# Altium footprint library 新主控制.PcbLib: 56 footprints (part 3 of 4)
Each footprint in its own frame and in the unit in brackets; x right, y up, seen from the top. Pads: shape width x height; smd on the part's side, far side on the other; paste and mask are expansions set on the pad; w line width, h text height; cw(c..) or ccw(c..) is an arc to the next point about the centre after c.
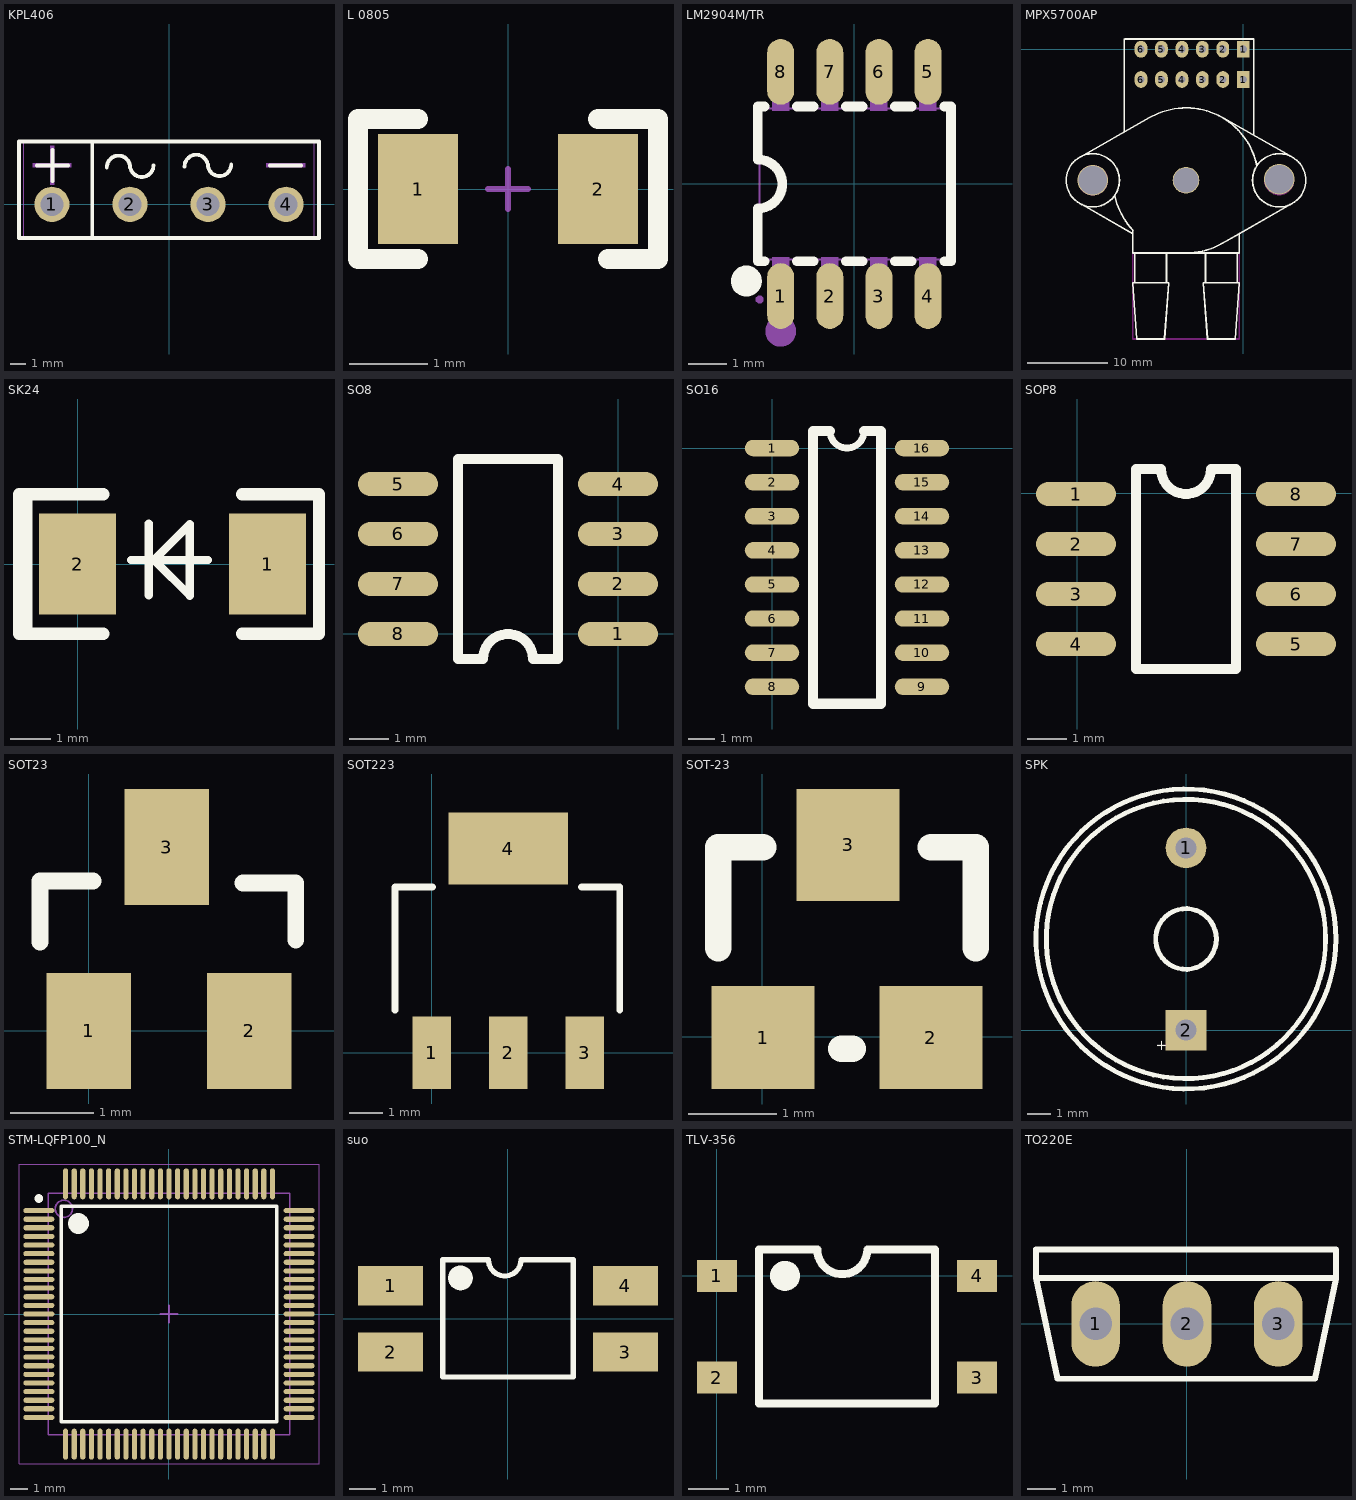
[diagram p2: the footprints below, top view; thin cyan lines are the x and y axes]

## KPL406 [mm]
height 0.7
pads (4):
  round 2.3 hole 1.5 paste+0 mask+0.051: 1(-7.65,0) 2(-2.55,0) 3(2.55,0) 4(7.65,0)
Top Overlay:
  lines w0.254: -8.636,2.54 -6.604,2.54 ; -7.62,1.524 -7.62,3.556 ; -5.016,-2.2 -5.016,4.1 ; -4.064,2.413 cw(c-3.302,2.413) -2.54,2.413 ; -2.54,2.54 ccw(c-1.778,2.54) -1.016,2.54 ; 1.016,2.477 cw(c1.778,2.477) 2.54,2.477 ; 2.54,2.603 ccw(c3.302,2.603) 4.064,2.603 ; 6.604,2.54 8.636,2.54 ; -9.8,-2.2 -9.8,4.1 9.8,4.1 9.8,-2.2 -9.8,-2.2
Mechanical 6:
  region: -7.764,1.291 -7.764,3.831 -7.51,3.831 -7.51,1.291
  region: -8.916,2.682 -6.376,2.682 -6.376,2.428 -8.916,2.428
  region: 6.35,2.667 8.89,2.667 8.89,2.413 6.35,2.413
Mechanical 15:
  region: -7.03,0 -7.03,0.123 -7.124,0.351 -7.299,0.526 -7.527,0.62 -7.773,0.62 -8.001,0.526 -8.176,0.351 -8.27,0.123 -8.27,0 -8.27,-0.123 -8.176,-0.351 -8.001,-0.526 -7.773,-0.62 -7.527,-0.62 -7.299,-0.526 -7.124,-0.351 -7.03,-0.123
  region: -1.93,0 -1.93,0.123 -2.024,0.351 -2.199,0.526 -2.427,0.62 -2.673,0.62 -2.901,0.526 -3.076,0.351 -3.17,0.123 -3.17,0 -3.17,-0.123 -3.076,-0.351 -2.901,-0.526 -2.673,-0.62 -2.427,-0.62 -2.199,-0.526 -2.024,-0.351 -1.93,-0.123
  region: 3.17,0 3.17,0.123 3.076,0.351 2.901,0.526 2.673,0.62 2.427,0.62 2.199,0.526 2.024,0.351 1.93,0.123 1.93,0 1.93,-0.123 2.024,-0.351 2.199,-0.526 2.427,-0.62 2.673,-0.62 2.901,-0.526 3.076,-0.351 3.17,-0.123
  region: 8.27,0 8.27,0.123 8.176,0.351 8.001,0.526 7.773,0.62 7.527,0.62 7.299,0.526 7.124,0.351 7.03,0.123 7.03,0 7.03,-0.123 7.124,-0.351 7.299,-0.526 7.527,-0.62 7.773,-0.62 8.001,-0.526 8.176,-0.351 8.27,-0.123
  region: -9.44,-2.1 -9.44,-2.075 -9.475,-2.04 -9.525,-2.04 -9.56,-2.075 -9.56,-2.1 -9.56,-2.125 -9.525,-2.16 -9.475,-2.16 -9.44,-2.125
  lines w0.051: -9.5,-2.1 -9.5,4.2 9.5,4.2 9.5,-2.1 -9.5,-2.1

## L 0805 [mil] "小功率贴片电感        淘宝ID:黄晶宝石"
height 27.56
pads (2):
  rect 40x55 smd: 1(-45,0) 2(45,0)
Top Overlay:
  lines w10: -45,-35 -75,-35 -75,35 -45,35 ; 45,35 75,35 75,-35 50,-35
Mechanical 15:
  lines w3: -10,0 10,0 ; 0,-10 0,10
3D body "0805.STEP": height 35.43, standoff -0.11, extent -39.37,-23.62 39.37,23.62

## LM2904M/TR [mm]
height 0.7
pads (8):
  oval 0.7x1.7 smd paste+0 mask+0.051: 1(-1.905,-2.9) 2(-0.635,-2.9) 3(0.635,-2.9) 4(1.905,-2.9) 5(1.905,2.9) 6(0.635,2.9) 7(-0.635,2.9) 8(-1.905,2.9)
Top Overlay:
  lines w0.254: -2.5,-0.635 -2.5,-2 -2.326,-2 ; -2.5,0.635 -2.5,2 -2.326,2 ; -2.5,-0.635 ccw(c-2.5,0) -2.499,0.635 ; -1.484,-2 -1.056,-2 ; -1.484,2 -1.056,2 ; -0.214,-2 0.214,-2 ; -0.214,2 0.214,2 ; 1.056,-2 1.484,-2 ; 1.056,2 1.484,2 ; 2.326,-2 2.5,-2 2.5,2 2.326,2
  lines w0.4: -2.794,-2.311 ccw(c-2.793,-2.511) -2.791,-2.311
Mechanical 6:
  circle w0.4: c-1.905,-3.81 r0.2
Mechanical 15:
  region: -2.125,-2.99 -2.125,-2.265 -1.685,-2.265 -1.685,-2.99
  region: -2.125,-2.315 -2.125,-1.9 -1.685,-1.9 -1.685,-2.315
  region: -0.855,-2.99 -0.855,-2.265 -0.415,-2.265 -0.415,-2.99
  region: -0.855,-2.315 -0.855,-1.9 -0.415,-1.9 -0.415,-2.315
  region: 0.415,-2.99 0.415,-2.265 0.855,-2.265 0.855,-2.99
  region: 0.415,-2.315 0.415,-1.9 0.855,-1.9 0.855,-2.315
  region: 1.685,-2.99 1.685,-2.265 2.125,-2.265 2.125,-2.99
  region: 1.685,-2.315 1.685,-1.9 2.125,-1.9 2.125,-2.315
  region: -2.125,2.265 -2.125,2.99 -1.685,2.99 -1.685,2.265
  region: -2.125,1.9 -2.125,2.315 -1.685,2.315 -1.685,1.9
  region: -0.855,2.265 -0.855,2.99 -0.415,2.99 -0.415,2.265
  region: -0.855,1.9 -0.855,2.315 -0.415,2.315 -0.415,1.9
  region: 0.415,2.265 0.415,2.99 0.855,2.99 0.855,2.265
  region: 0.415,1.9 0.415,2.315 0.855,2.315 0.855,1.9
  region: 1.685,2.265 1.685,2.99 2.125,2.99 2.125,2.265
  region: 1.685,1.9 1.685,2.315 2.125,2.315 2.125,1.9
  region: -2.35,-2.99 -2.35,-2.949 -2.409,-2.89 -2.492,-2.89 -2.55,-2.949 -2.55,-2.99 -2.55,-3.032 -2.492,-3.09 -2.409,-3.09 -2.35,-3.032
  lines w0.051: -2.45,-1.95 2.45,-1.95 2.45,1.95 -2.45,1.95 -2.45,-1.95

## MPX5700AP [mil]
height 27.56
pads (15):
  rect 62x82 hole 35: 1(0,-147.87) 1(0,0)
  oval 62x82 hole 35: 2(-100,-147.87) 2(-100,0) 3(-200,-147.87) 3(-200,0) 4(-300,-147.87) 4(-300,0) 5(-400,-147.87) 5(-400,0) 6(-500,-147.87) 6(-500,0)
  round 150 hole 140: ""(-735,-640) ""(175,-635)
  round 130 hole 120: ""(-280,-640)
Top Overlay:
  circle w8: c174.82,-639.95 r130
  circle w8: c-735.18,-639.95 r130
  circle w8: c-735,-640 r130
  circle w8: c175,-640 r130
  lines w8: -810.18,-534.95 -460.18,-334.95 -414.53,-312.85 cw(c-280.18,-639.95) 66.38,-569.63 ; -810,-535 -460,-335 -414.35,-312.89 cw(c-280,-640) 66.56,-569.68 ; -785.18,-759.95 -540.18,-899.95 ; -785,-760 -540,-900 ; -627.9,-715.55 ccw(c-280.18,-639.95) -539.16,-883.99 ; -627.72,-715.59 ccw(c-280,-640) -538.98,-884.04 ; -581,-404 -581,49 -580,50 -550,50 50,50 50,-50 50,-419 ; -540.18,-884.95 -540.18,-899.95 ; -540,-885 -540,-900 ; -530.18,-994.95 -530.18,-1139.95 ; -530,-995 -530,-1140 ; -375.18,-994.95 -375.18,-999.95 -375.18,-1139.95 ; -375,-995 -375,-1000 -375,-1140 ; -280.18,-995.09 ccw(c-280.18,-639.95) -85.55,-937.01 -20.18,-899.95 ; -280,-995.14 ccw(c-280,-640) -85.37,-937.06 -20,-900 235,-755 ; -280,-995 -540,-995 -540,-900 ; -185.18,-994.95 -185.18,-1139.95 ; -100.18,-334.95 244.82,-529.95 ; -100,-335 245,-530 ; -30.18,-994.95 -30.18,-1139.95 ; 234.82,-754.95 -20.18,-899.95 ; -540.18,-899.95 -540.18,-994.95 -280.18,-994.95 -20.18,-994.95 -20.18,-899.95 ; -530.18,-1139.95 -540.18,-1139.95 -520.18,-1414.95 -385.18,-1414.95 -365.18,-1139.95 -375.18,-1139.95 ; -530.18,-1139.95 -375.18,-1139.95 ; -530,-1140 -375,-1140 ; -530,-1140 -540,-1140 -520,-1415 -385,-1415 -365,-1140 -375,-1140 ; -185.18,-1139.95 -195.18,-1139.95 -175.18,-1414.95 -40.18,-1414.95 -20.18,-1139.95 -30.18,-1139.95 ; -185.18,-1139.95 -30.18,-1139.95
Top Paste:
  lines w5: -580,-380 -580,-155
Keep-Out Layer:
  circle w5: c-735.18,-639.95 r68.89
  circle w5: c175.06,-640.19 r68.9
  circle w5: c-281.64,-640.19 r59.05
  circle w10: c175,-640 r68.9
  circle w10: c-735,-640 r68.9
  lines w8: -540,-1415 -540,-995 -20,-995 -20,-1415 -540,-1415

## SK24 [mm]
height 0.7
pads (2):
  rect 1.9x2.5 smd: 1(4.699,0) 2(0,0)
Top Overlay:
  lines w0.2: 1.911,0.078 1.911,0.14 1.925,0.14
  lines w0.203: 1.321,0.102 3.226,0.102 ; 1.758,-0.774 1.758,1 ; 1.911,0.078 2.774,-0.785 2.774,0.989 1.925,0.14
  lines w0.305: 0.635,-1.727 -1.27,-1.727 ; 0.635,1.727 -1.27,1.727 ; 4.064,-1.727 5.969,-1.727 5.969,1.727 4.064,1.727 ; -1.27,-1.727 -1.27,1.727 ; -1.27,-1.727 -1.448,-1.727 -1.448,1.727 -1.27,1.727

## SO8 [mil]
height 27.56
pads (8):
  oval 80x24 smd: 1(0,0) 2(0,50) 3(0,100) 4(0,150) 5(-220,150) 6(-220,100) 7(-220,50) 8(-220,0)
Top Overlay:
  lines w10: -160,-25 -135,-25 cw(c-110,-25) -85,-25 -60,-25 -60,175 -160,175 -160,-25

## SO16 [mil]
height 27.56
pads (16):
  oval 80x24 smd: 1(0,0) 2(0,-50) 3(0,-100) 4(0,-150) 5(0,-200) 6(0,-250) 7(0,-300) 8(0,-350) 9(220,-350) 10(220,-300) 11(220,-250) 12(220,-200) 13(220,-150) 14(220,-100) 15(220,-50) 16(220,0)
Top Overlay:
  lines w10: 85,25 ccw(c110,25) 135,25
  lines w15: 85,25 60,25 60,-375 160,-375 160,25 135,25

## SOP8 [mil] "封装库来自淘宝卖?"
height 27.56
pads (8):
  oval 80x24 smd: 1(-1,-1) 2(-1,-51) 3(-1,-101) 4(-1,-151) 5(219,-151) 6(219,-101) 7(219,-51) 8(219,-1)
Top Overlay:
  lines w10: 59,-176 59,24 84,24 ccw(c109,24) 134,24 159,24 159,-176 59,-176
3D body "SOP8.STEP": height 62.99, standoff 0, extent -3.93,-173.82 233.94,23.82

## SOT23 [mil]
height 27.56
pads (3):
  rect 40x55 smd: 1(0,0) 2(76,0) 3(37,87)
Top Overlay:
  lines w8: -23,42 -23,71 2,71 ; 73,70 97,70 ; 98,43 98,70

## SOT223 [mil]
pads (4):
  rect 45x85 smd: 1(0,0) 2(90,0) 3(180,0)
  rect 140x85 smd: 4(90,240)
Top Overlay:
  lines w8: -43,50 -43,195 1,195 ; 176,195 221,195 221,50

## SOT-23 [mil]
height 27.56
pads (3):
  rect 46x46 smd: 1(0.24,-0.44) 2(75.24,-0.44)
  rect 46x50 smd: 3(38.24,85.56)
Top Overlay:
  lines w12: -19.76,39.56 -19.76,84.56 0.24,84.56 ; 35.24,-5.44 40.24,-5.44 ; 75.24,84.56 95.24,84.56 95.24,39.56

## SPK [mm]
height 0.7
pads (2):
  round 1.7 hole 0.889: 1(0,7.62)
  rect 1.7x1.7 hole 0.889: 2(0,0)
Top Overlay:
  circle w0.203: c0,3.81 r5.842
  circle w0.203: c0,3.81 r1.27
  circle w0.203: c0,3.81 r6.274
  text "+" at -0.686,-0.914 h0.76

## STM-LQFP100_N [mm] "Thin QFP, 100-Leads, Body 14x14mm, Pitch 0.5mm, IPC Medium Density"
height 1.6
pads (100):
  oval 1.8x0.3 smd: 1(-7.55,6) 2(-7.55,5.5) 3(-7.55,5) 4(-7.55,4.5) 5(-7.55,4) 6(-7.55,3.5) 7(-7.55,3) 8(-7.55,2.5) 9(-7.55,2) 10(-7.55,1.5) 11(-7.55,1) 12(-7.55,0.5) 13(-7.55,0) 14(-7.55,-0.5) 15(-7.55,-1) 16(-7.55,-1.5) 17(-7.55,-2) 18(-7.55,-2.5) 19(-7.55,-3) 20(-7.55,-3.5) 21(-7.55,-4) 22(-7.55,-4.5) 23(-7.55,-5) 24(-7.55,-5.5) 25(-7.55,-6) 51(7.55,-6) 52(7.55,-5.5) 53(7.55,-5) 54(7.55,-4.5) 55(7.55,-4) 56(7.55,-3.5) 57(7.55,-3) 58(7.55,-2.5) 59(7.55,-2) 60(7.55,-1.5) 61(7.55,-1) 62(7.55,-0.5) 63(7.55,0) 64(7.55,0.5) 65(7.55,1) 66(7.55,1.5) 67(7.55,2) 68(7.55,2.5) 69(7.55,3) 70(7.55,3.5) 71(7.55,4) 72(7.55,4.5) 73(7.55,5) 74(7.55,5.5) 75(7.55,6)
  oval 0.3x1.8 smd: 26(-6,-7.55) 27(-5.5,-7.55) 28(-5,-7.55) 29(-4.5,-7.55) 30(-4,-7.55) 31(-3.5,-7.55) 32(-3,-7.55) 33(-2.5,-7.55) 34(-2,-7.55) 35(-1.5,-7.55) 36(-1,-7.55) 37(-0.5,-7.55) 38(0,-7.55) 39(0.5,-7.55) 40(1,-7.55) 41(1.5,-7.55) 42(2,-7.55) 43(2.5,-7.55) 44(3,-7.55) 45(3.5,-7.55) 46(4,-7.55) 47(4.5,-7.55) 48(5,-7.55) 49(5.5,-7.55) 50(6,-7.55) 76(6,7.55) 77(5.5,7.55) 78(5,7.55) 79(4.5,7.55) 80(4,7.55) 81(3.5,7.55) 82(3,7.55) 83(2.5,7.55) 84(2,7.55) 85(1.5,7.55) 86(1,7.55) 87(0.5,7.55) 88(0,7.55) 89(-0.5,7.55) 90(-1,7.55) 91(-1.5,7.55) 92(-2,7.55) 93(-2.5,7.55) 94(-3,7.55) 95(-3.5,7.55) 96(-4,7.55) 97(-4.5,7.55) 98(-5,7.55) 99(-5.5,7.55) 100(-6,7.55)
Top Overlay:
  circle w0.25: c-7.55,6.7 r0.125
  circle w0.6: c-5.25,5.25 r0.3
  lines w0.2: -6.25,-6.25 -6.25,6.25 6.25,6.25 6.25,-6.25 -6.25,-6.25
Mechanical 13:
  circle w0.1: c-6.1,6.1 r0.5
  lines w0.1: -7,-7 -7,7 7,7 7,-7 -7,-7
Mechanical 15:
  lines w0.05: -8.7,-8.7 -8.7,8.7 8.7,8.7 8.7,-8.7 -8.7,-8.7
  lines w0.1: -0.5,0 0.5,0 ; 0,-0.5 0,0.5
3D body: height 1.6, standoff 0.05, extent -7,-7 7,7

## suo [mm]
height 0.7
pads (4):
  rect 2.5x1.5 smd: 1(-4.5,1.27) 2(-4.5,-1.27) 3(4.5,-1.27) 4(4.5,1.27)
Top Overlay:
  circle w0.5: c-1.824,1.57 r0.224
  lines w0.2: -0.8,2.27 -2.5,2.27 -2.5,-2.23 2.5,-2.23 2.5,2.27 0.5,2.27 cw(c-0.125,2.27) -0.75,2.27
3D body "User Library-4-SMD.STEP": height 3.75, standoff -0.01, extent -5.02,-2.299 5.14,2.299

## TLV-356 [mm]
height 0.7
pads (4):
  rect 1x0.8 smd: 1(0,0) 2(0,-2.54) 3(6.5,-2.54) 4(6.5,0)
Top Overlay:
  circle w0.5: c1.7,0 r0.124
  lines w0.2: 2.457,0.665 1.05,0.665 1.05,-3.195 5.45,-3.195 5.45,0.665 3.757,0.665 cw(c3.132,0.665) 2.507,0.665

## TO220E [mil]
height 27.56
pads (3):
  oval 67x118 hole 45: 1(-125.76,-0.44) 2(0.24,-0.44) 3(126.24,-0.44)
Top Overlay:
  lines w8: -197.23,102.03 205.77,102.03 205.77,62.03 176.77,-75.97 -178.23,-75.97 -207.95,63.02 ; -192.21,102.03 -207.59,102.03 -207.95,102.39 -207.95,63.02 ; 204.78,63.02 -207.95,63.02